# Altium footprint library General.PcbLib: 6 footprints
Each footprint in its own frame and in the unit in brackets; x right, y up, seen from the top. Pads: shape width x height; smd on the part's side, far side on the other; paste and mask are expansions set on the pad; w line width, h text height; cw(c..) or ccw(c..) is an arc to the next point about the centre after c.
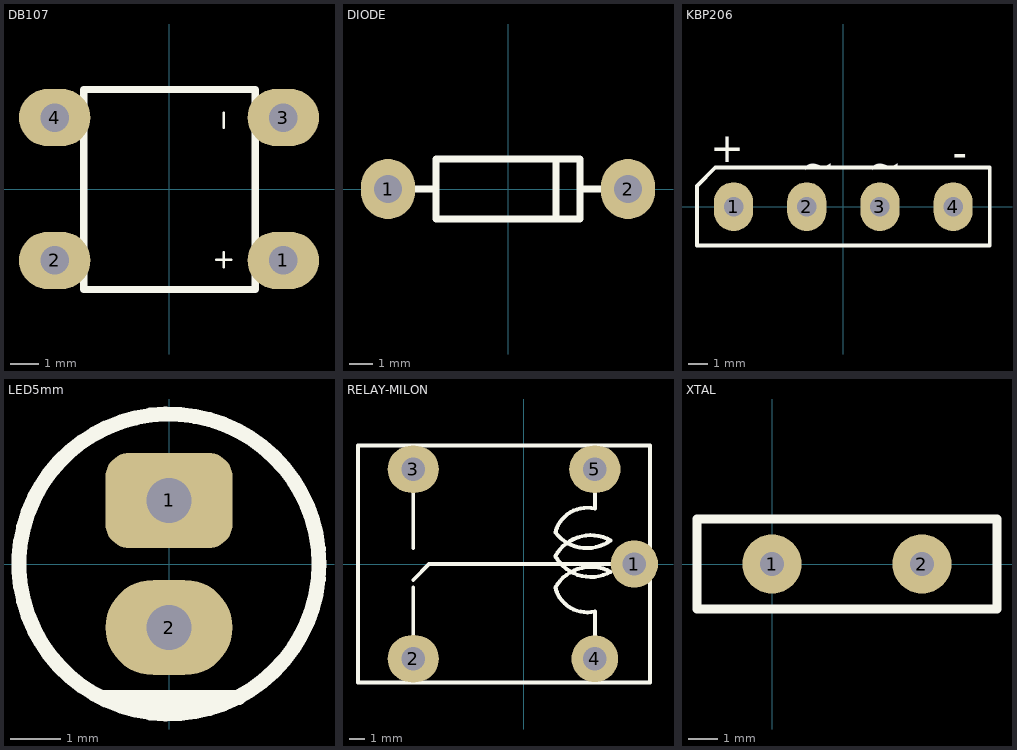
[diagram p0: the footprints below, top view; thin cyan lines are the x and y axes]

## DB107 [mm]
pads (4):
  oval 2.5x2 hole 1: 1(4,-2.5) 2(-4,-2.5) 3(4,2.5) 4(-4,2.5)
Top Overlay:
  lines w0.1: 1.663,-2.475 2.171,-2.475 ; 1.917,-2.729 1.917,-2.221 ; 1.917,2.148 1.917,2.656
  lines w0.254: -2.984,-3.52 3.016,-3.52 3.016,3.48 -2.984,3.48 -2.984,-3.52

## DIODE [mm]
pads (2):
  oval 2.286x2.54 hole 1.2: 1(-5.08,0) 2(5.08,0)
Top Overlay:
  lines w0.3: -5.08,0 -3.048,0 ; 2.032,-1.27 2.032,1.27 ; 3.048,0 5.08,0 ; -3.048,-1.27 -3.048,1.27 3.048,1.27 3.048,-1.27 -3.048,-1.27
3D body "Diode THD.step": height 2.55, standoff -2.54, extent -5.461,-1.283 5.461,1.283

## KBP206 [mm]
pads (4):
  oval 2x2.5 hole 1: 1(-5.625,0) 2(-1.875,0) 3(1.875,0) 4(5.625,0)
Top Overlay:
  lines w0.2: -7.5,-2 7.5,-2 7.5,2 -6.566,2 -7.5,1.066 -7.5,-2
  text "~" at 1.27,1.379 h1.52
  text "~" at -2.159,1.379 h1.52
  text "-" at 6.35,2.014 h1.52
  text "+" at -5.08,2.286 h1.52

## LED5mm [mm]
pads (2):
  rrect50% 2.54x1.905 hole 0.9: 1(0,1.27)
  oval 2.54x1.905 hole 0.9: 2(0,-1.27)
Top Overlay:
  circle w0.3: c0,0 r3
  lines w0.3: -1.27,-2.667 1.397,-2.667 ; -1.016,-2.794 1.016,-2.794
3D body "LED 5mm Green-1.step": height 9.72, standoff -1.97, extent -2.9,-2.5 2.9,2.9

## RELAY-MILON [mil]
pads (5):
  round 120 hole 59.06: 1(280,0)
  oval 130x120 hole 59.06: 2(-280,-240) 3(-280,240) 5(180,240)
  round 118.11 hole 59.06: 4(180,-240)
Top Overlay:
  lines w10: -280,-240 -280,-60 ; -280,-40 -240,0 -140,0 280,0 ; -280,40 -280,80 -280,240 ; 180,-240 180,-140 180,-120 cw(c160,-40) 80,-60 cw(c170,-110) 220,-20 cw(c170,70) 80,20 cw(c170,-30) 220,60 cw(c160,140) 80,80 cw(c160,60) 180,140 180,240 ; -420,-300 320,-300 320,300 -420,300 -420,-300

## XTAL [mm]
pads (2):
  round 2 hole 0.8: 1(0,0) 2(5.08,0)
Top Overlay:
  lines w0.305: -2.54,-1.524 7.62,-1.524 7.62,1.524 -2.54,1.524 -2.54,-1.524